# Altium schematic symbol library SCH - DAC - CR75NP-101KC.SCHLIB: 1 symbol
Pins are listed as number, name and electrical type; pins without a type are passive.

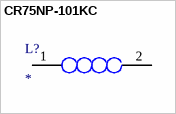
[diagram p0: symbol CR75NP-101KC]

## CR75NP-101KC
designator L?
Inductor; Manufacturer_Name: Wurth Elektronik; Manufacturer_Part_Number: 784787121; Datasheet Link: https://www.we-online.com/catalog/datasheet/784787121.pdf; Height: 5mm
footprint 784787121
pins: 1, 2